# Altium schematic symbol library EL-sense_Memory_Data_Storage.SchLib: 5 symbols
Pins are listed as number, name and electrical type; pins without a type are passive.

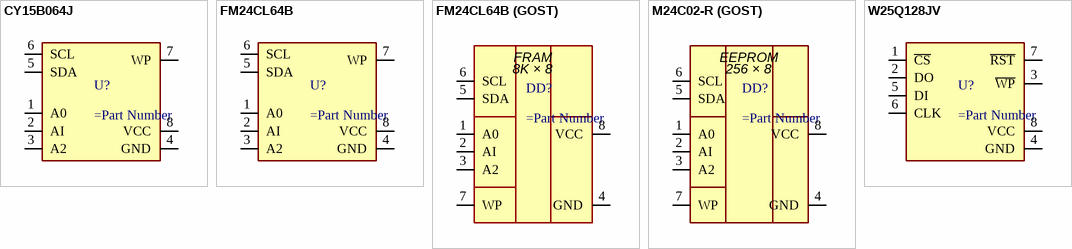
[diagram p0: symbols CY15B064J to W25Q128JV]

## CY15B064J
designator U?
pins: 1 A0, 2 AI, 3 A2, 4 GND, 5 SDA, 6 SCL, 7 WP, 8 VCC

## FM24CL64B
designator U?
pins: 1 A0, 2 AI, 3 A2, 4 GND, 5 SDA, 6 SCL, 7 WP, 8 VCC

## FM24CL64B (GOST)
designator DD?
pins: 1 A0, 2 AI, 3 A2, 4 GND, 5 SDA, 6 SCL, 7 WP, 8 VCC
text: FRAM; 8K × 8

## M24C02-R (GOST)
designator DD?
pins: 1 A0, 2 AI, 3 A2, 4 GND, 5 SDA, 6 SCL, 7 WP, 8 VCC
text: EEPROM; 256 × 8

## W25Q128JV
designator U?
pins: 1 ~{CS}, 2 DO, 3 ~{WP}, 4 GND, 5 DI, 6 CLK, 7 ~{RST}, 8 VCC